# Altium schematic symbol library CON_ 2X2_terminal block.SchLib: 1 symbol
Pins are listed as number, name and electrical type; pins without a type are passive.

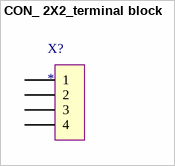
[diagram p0: symbol CON_ 2X2_terminal block]

## CON_ 2X2_terminal block
designator X?
Terminal Header
footprint CON_2X2_terminal_header
pins: 1, 2, 3, 4